# Altium footprint library trafo-bei.PCBLIB: 1 footprints
Each footprint in its own frame and in the unit in brackets; x right, y up, seen from the top. Pads: shape width x height; smd on the part's side, far side on the other; paste and mask are expansions set on the pad; w line width, h text height; cw(c..) or ccw(c..) is an arc to the next point about the centre after c.
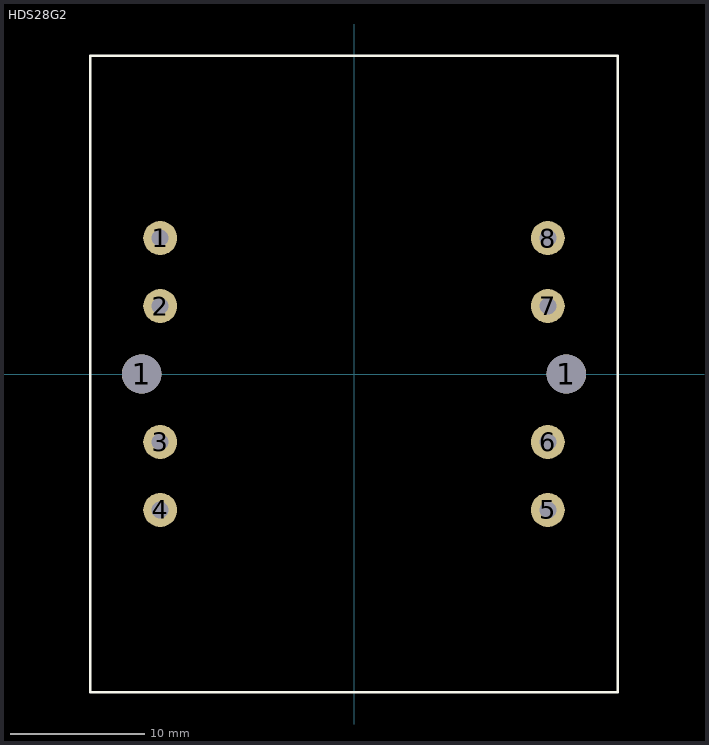
[diagram p0: the footprint, top view; thin cyan lines are the x and y axes]

## HDS28G2 [mil]
pads (10):
  round 116 hole 116: 1(-625,0) 1(625,0)
  round 100 hole 50: 1(-570,400) 2(-570,200) 3(-570,-200) 4(-570,-400) 5(570,-400) 6(570,-200) 7(570,200) 8(570,400)
Top Overlay:
  lines w8: -775.59,-936.02 775.59,-936.02 775.59,936.02 -775.59,936.02 -775.59,-936.02